# Altium schematic symbol library Amplifier_Operational.SchLib: 326 symbols (part 4 of 4)
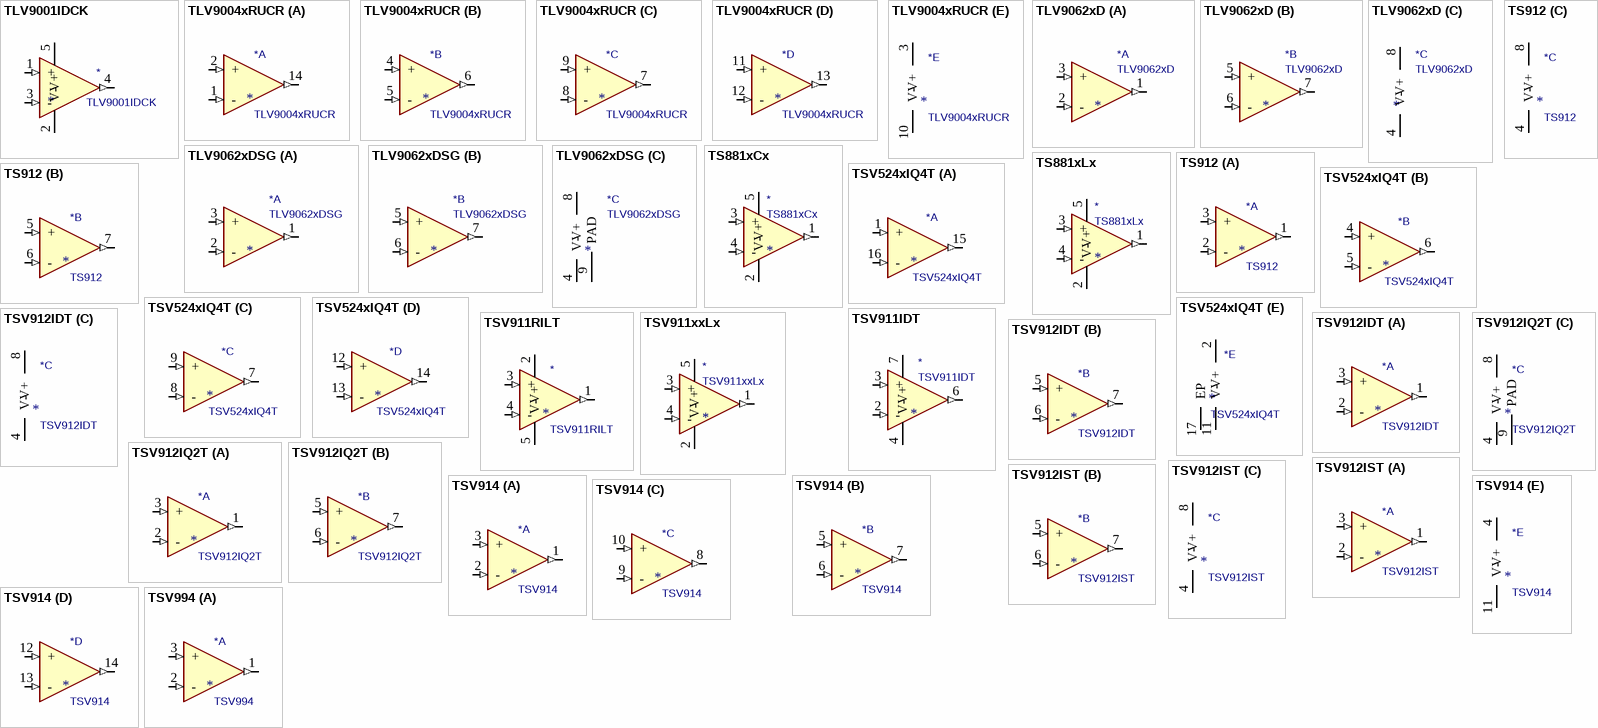
[diagram p21: symbols TLV9001IDCK to TSV994]

## TLV9062xDSG
designator *  value TLV9062xDSG
ki_keywords: dual opamp low-power; ki_description: Dual operational amplifier, 210uV Offset, 0.25uV/C, low-noise, WSON-8; ki_fp_filters: WSON*1EP?2x2mm*P0.5mm*; Footprint: Package_SON:WSON-8-1EP_2x2mm_P0.5mm_EP0.9x1.6mm_ThermalVias; Supplier: https://www.ti.com/lit/ds/symlink/tlv9062.pdf
footprint WSON-8-1EP_2x2mm_P0.5mm_EP0.9x1.6mm_ThermalVias
part A pins: 1 (out), 2 - (in), 3 + (in)
part B pins: 5 + (in), 6 - (in), 7 (out)
part C pins: 4 V- (power), 8 V+ (power), 9 PAD (power)

## TS881xCx
designator *  value TS881xCx
ki_keywords: single comparator; ki_description: Rail-to-rail 0.9V nanopower comparator, SC-70-5; ki_fp_filters: *SC?70*; Footprint: Package_TO_SOT_SMD:SOT-353_SC-70-5; Supplier: http://www.st.com/content/ccc/resource/technical/document/datasheet/a2/60/3e/5d/b2/c1/4a/e9/DM00057901.pdf/files/DM00057901.pdf/jcr:content/translations/en.DM00057901.pdf
footprint SOT-353_SC-70-5
pins: 1 (out), 2 V- (power), 3 + (in), 4 - (in), 5 V+ (power)

## TS881xLx
designator *  value TS881xLx
ki_keywords: single comparator; ki_description: Rail-to-rail 0.9V nanopower comparator, SOT-23-5; ki_fp_filters: SOT?23*; Footprint: Package_TO_SOT_SMD:SOT-23-5; Supplier: www.st.com/resource/en/datasheet/ts881.pdf
footprint SOT-23-5
pins: 1 (out), 2 V- (power), 3 + (in), 4 - (in), 5 V+ (power)

## TS912
designator *  value TS912
ki_keywords: dual opamp; ki_description: Dual Rail-to-rail CMOS Operational Amplifier, DIP-8/SOIC-8; ki_fp_filters: SOIC*3.9x4.9mm*P1.27mm* DIP*W7.62mm* TO*99* OnSemi*Micro8* TSSOP*3x3mm*P0.65mm* TSSOP*4.4x3mm*P0.65mm* MSOP*3x3mm*P0.65mm* SSOP*3.9x4.9mm*P0.635mm* LFCSP*2x2mm*P0.5mm* *SIP* SOIC*5.3x6.2mm*P1.27mm*; Supplier: www.st.com/resource/en/datasheet/ts912.pdf
part A pins: 1 (out), 2 - (in), 3 + (in)
part B pins: 5 + (in), 6 - (in), 7 (out)
part C pins: 4 V- (power), 8 V+ (power)

## TSV524xIQ4T
designator *  value TSV524xIQ4T
ki_keywords: quad opamp; ki_description: Quad CMOS Rail-to-Rail Input/Output Amplifier, 1.15MHz GBP, QFN-16; ki_fp_filters: QFN*3x3mm*P0.5mm*EP1.7x1.7mm*; Footprint: Package_DFN_QFN:QFN-16-1EP_3x3mm_P0.5mm_EP1.7x1.7mm; Supplier: https://www.st.com/resource/en/datasheet/tsv521.pdf
footprint QFN-16-1EP_3x3mm_P0.5mm_EP1.7x1.7mm
part A pins: 1 + (in), 15 (out), 16 - (in)
part B pins: 4 + (in), 5 - (in), 6 (out)
part C pins: 7 (out), 8 - (in), 9 + (in)
part D pins: 12 + (in), 13 - (in), 14 (out)
part E pins: 2 V+ (power), 3 NC (in) hidden, 10 NC (in) hidden, 11 V- (power), 17 EP

## TSV911IDT
designator *  value TSV911IDT
ki_keywords: single opamp; ki_description: Single rail-to-rail input/output 8 MHz operational amplifiers, SOIC-8; ki_fp_filters: SOIC*3.9x4.9mm*P1.27mm*; Footprint: Package_SO:SOIC-8_3.9x4.9mm_P1.27mm; Supplier: www.st.com/resource/en/datasheet/tsv911.pdf
footprint SOIC-8_3.9x4.9mm_P1.27mm
pins: 1 NC (in) hidden, 2 - (in), 3 + (in), 4 V- (power), 5 NC (in) hidden, 6 (out), 7 V+ (power), 8 NC (in) hidden

## TSV911RILT
designator *  value TSV911RILT
ki_keywords: single opamp; ki_description: Single rail-to-rail input/output 8 MHz operational amplifiers, SOT-23-5; ki_fp_filters: SOT?23*; Footprint: Package_TO_SOT_SMD:SOT-23-5; Supplier: www.st.com/resource/en/datasheet/tsv911.pdf
footprint SOT-23-5
pins: 1 (out), 2 V+ (power), 3 + (in), 4 - (in), 5 V- (power)

## TSV911xxLx
designator *  value TSV911xxLx
ki_keywords: single opamp; ki_description: Single rail-to-rail input/output 8 MHz operational amplifiers, SOT-23-5; ki_fp_filters: SOT?23*; Footprint: Package_TO_SOT_SMD:SOT-23-5; Supplier: www.st.com/resource/en/datasheet/tsv911.pdf
footprint SOT-23-5
pins: 1 (out), 2 V- (power), 3 + (in), 4 - (in), 5 V+ (power)

## TSV912IDT
designator *  value TSV912IDT
ki_keywords: dual opamp; ki_description: Dual rail-to-rail input/output 8 MHz operational amplifiers, SOIC-8; ki_fp_filters: SOIC*3.9x4.9mm*P1.27mm* DIP*W7.62mm* TO*99* OnSemi*Micro8* TSSOP*3x3mm*P0.65mm* TSSOP*4.4x3mm*P0.65mm* MSOP*3x3mm*P0.65mm* SSOP*3.9x4.9mm*P0.635mm* LFCSP*2x2mm*P0.5mm* *SIP* SOIC*5.3x6.2mm*P1.27mm*; Supplier: www.st.com/resource/en/datasheet/tsv911.pdf
part A pins: 1 (out), 2 - (in), 3 + (in)
part B pins: 5 + (in), 6 - (in), 7 (out)
part C pins: 4 V- (power), 8 V+ (power)

## TSV912IQ2T
designator *  value TSV912IQ2T
ki_keywords: dual opamp; ki_description: Dual rail-to-rail input/output 8 MHz operational amplifiers, DFN-8; ki_fp_filters: DFN*2x2mm*P0.5mm*; Footprint: Package_DFN_QFN:DFN-8-1EP_2x2mm_P0.5mm_EP1.05x1.75mm; Supplier: www.st.com/resource/en/datasheet/tsv911.pdf
footprint DFN-8-1EP_2x2mm_P0.5mm_EP1.05x1.75mm
part A pins: 1 (out), 2 - (in), 3 + (in)
part B pins: 5 + (in), 6 - (in), 7 (out)
part C pins: 4 V- (power), 8 V+ (power), 9 PAD (power)

## TSV912IST
designator *  value TSV912IST
ki_keywords: dual opamp; ki_description: Dual rail-to-rail input/output 8 MHz operational amplifiers, MiniSO-8; ki_fp_filters: SOIC*3.9x4.9mm*P1.27mm* DIP*W7.62mm* TO*99* OnSemi*Micro8* TSSOP*3x3mm*P0.65mm* TSSOP*4.4x3mm*P0.65mm* MSOP*3x3mm*P0.65mm* SSOP*3.9x4.9mm*P0.635mm* LFCSP*2x2mm*P0.5mm* *SIP* SOIC*5.3x6.2mm*P1.27mm*; Supplier: www.st.com/resource/en/datasheet/tsv911.pdf
part A pins: 1 (out), 2 - (in), 3 + (in)
part B pins: 5 + (in), 6 - (in), 7 (out)
part C pins: 4 V- (power), 8 V+ (power)

## TSV914
designator *  value TSV914
ki_keywords: quad opamp; ki_description: Quad rail-to-rail input/output 8 MHz operational amplifiers, SOIC-14/TSSOP-14; ki_fp_filters: SOIC*3.9x8.7mm*P1.27mm* DIP*W7.62mm* TSSOP*4.4x5mm*P0.65mm* SSOP*5.3x6.2mm*P0.65mm* MSOP*3x3mm*P0.5mm*; Supplier: www.st.com/resource/en/datasheet/tsv911.pdf
part A pins: 1 (out), 2 - (in), 3 + (in)
part B pins: 5 + (in), 6 - (in), 7 (out)
part C pins: 8 (out), 9 - (in), 10 + (in)
part D pins: 12 + (in), 13 - (in), 14 (out)
part E pins: 4 V+ (power), 11 V- (power)

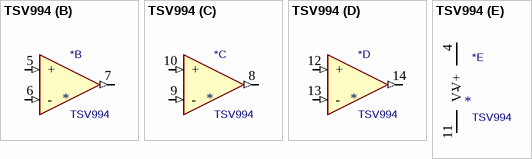
[diagram p18: symbol TSV994]

## TSV994
designator *  value TSV994
ki_keywords: quad opamp; ki_description: Quad Rail-to-rail, 20 MHz GBP, operational amplifiers, SOIC-14/TSSOP-14; ki_fp_filters: SOIC*3.9x8.7mm*P1.27mm* DIP*W7.62mm* TSSOP*4.4x5mm*P0.65mm* SSOP*5.3x6.2mm*P0.65mm* MSOP*3x3mm*P0.5mm*; Supplier: https://www.st.com/resource/en/datasheet/tsv994.pdf
part A pins: 1 (out), 2 - (in), 3 + (in)
part B pins: 5 + (in), 6 - (in), 7 (out)
part C pins: 8 (out), 9 - (in), 10 + (in)
part D pins: 12 + (in), 13 - (in), 14 (out)
part E pins: 4 V+ (power), 11 V- (power)